# Altium footprint library rlc-chip.PcbLib: 57 footprints (part 4 of 4)
Each footprint in its own frame and in the unit in brackets; x right, y up, seen from the top. Pads: shape width x height; smd on the part's side, far side on the other; paste and mask are expansions set on the pad; w line width, h text height; cw(c..) or ccw(c..) is an arc to the next point about the centre after c.
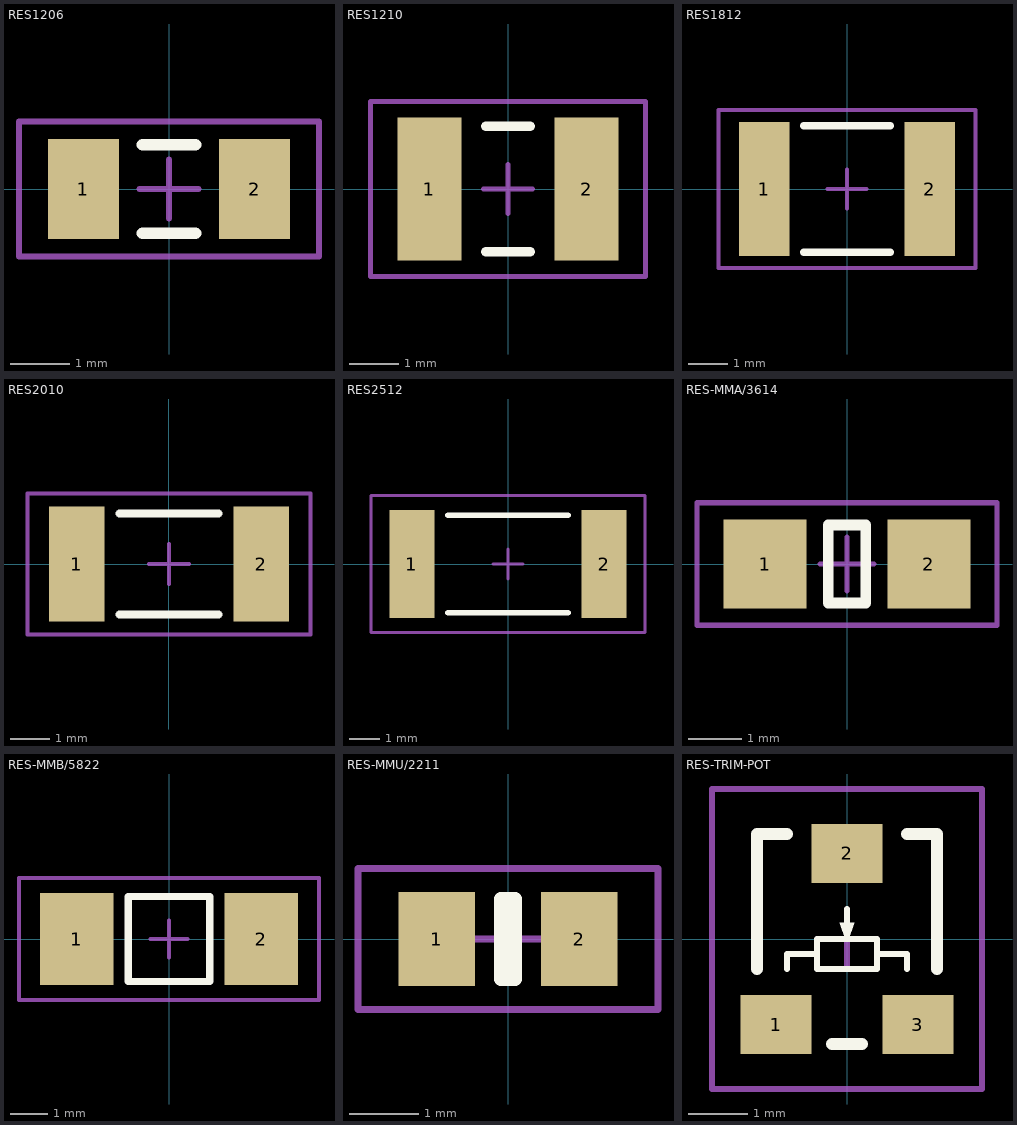
[diagram p3: the footprints below, top view; thin cyan lines are the x and y axes]

## RES1206 [mm] "Chip Resistor, 2-Leads, Body 3,13x1,55mm, IPC Medium Density"
height 0.7
pads (2):
  rect 1.2x1.7 smd: 1(-1.45,0) 2(1.45,0)
Top Overlay:
  lines w0.2: -0.45,-0.75 0.45,-0.75 ; -0.45,0.75 0.45,0.75
Mechanical 13:
  lines w0.1: -2.54,-1.143 -2.54,1.143 2.54,1.143 2.54,-1.143 -2.54,-1.143
  text ".Designator" at -1.85,-0.54 h1.1
Mechanical 15:
  lines w0.05: -2.54,-1.143 -2.54,1.143 2.54,1.143 2.54,-1.143 -2.54,-1.143
  lines w0.1: -0.5,0 0.5,0 ; 0,-0.5 0,0.5
3D body: height 0.7, standoff 0, extent -1.125,-0.825 1.125,0.825
3D body: height 0.7, standoff 0, extent -1.625,-0.825 -1.125,0.825
3D body: height 0.7, standoff 0, extent 1.125,-0.825 1.625,0.825

## RES1210 [mm] "Chip Resistor, 2-Leads, Body 3,20x2,50mm, IPC Medium Density"
height 0.7
pads (2):
  rect 1.3x2.9 smd: 1(-1.6,0) 2(1.6,0)
Top Overlay:
  lines w0.2: -0.45,-1.275 0.45,-1.275 ; -0.45,1.275 0.45,1.275
Mechanical 13:
  lines w0.1: -2.794,-1.778 2.794,-1.778 2.794,1.778 -2.794,1.778 -2.794,-1.778
  text ".Designator" at -1.99,-0.55 h1.2
Mechanical 15:
  lines w0.05: -2.794,-1.778 2.794,-1.778 2.794,1.778 -2.794,1.778 -2.794,-1.778
  lines w0.1: -0.5,0 0.5,0 ; 0,-0.5 0,0.5
3D body: height 0.7, standoff 0, extent 1.2,-1.35 1.7,1.35
3D body: height 0.7, standoff 0, extent -1.7,-1.35 -1.2,1.35
3D body: height 0.7, standoff 0, extent -1.2,-1.35 1.2,1.35

## RES1812 [mm] "Chip Resistor, 2-Leads, Body 4,50x3,20mm, IPC Medium Density"
height 0.7
pads (2):
  rect 1.3x3.45 smd: 1(-2.125,0) 2(2.125,0)
Top Overlay:
  lines w0.2: -1.1,-1.625 1.1,-1.625 ; -1.1,1.625 1.1,1.625
Mechanical 13:
  lines w0.1: -3.302,-2.032 -3.302,2.032 3.302,2.032 3.302,-2.032 -3.302,-2.032
  text ".Designator" at -2.5,-0.71 h1.5
Mechanical 15:
  lines w0.05: -3.302,-2.032 -3.302,2.032 3.302,2.032 3.302,-2.032 -3.302,-2.032
  lines w0.1: -0.5,0 0.5,0 ; 0,-0.5 0,0.5
3D body: height 0.7, standoff 0, extent -1.85,-1.7 1.85,1.7
3D body: height 0.7, standoff 0, extent -2.35,-1.7 -1.85,1.7
3D body: height 0.7, standoff 0, extent 1.85,-1.7 2.35,1.7

## RES2010 [mm] "Chip Resistor, 2-Leads, Body 5,00x2,50mm, IPC Medium Density"
height 0.7
pads (2):
  rect 1.4x2.9 smd: 1(-2.325,0) 2(2.325,0)
Top Overlay:
  lines w0.2: -1.25,-1.275 1.25,-1.275 ; -1.25,1.275 1.25,1.275
Mechanical 13:
  lines w0.1: -3.556,-1.778 3.556,-1.778 3.556,1.778 -3.556,1.778 -3.556,-1.778
  text ".Designator" at -2.63,-0.77 h1.6
Mechanical 15:
  lines w0.05: -3.556,-1.778 3.556,-1.778 3.556,1.778 -3.556,1.778 -3.556,-1.778
  lines w0.1: -0.5,0 0.5,0 ; 0,-0.5 0,0.5
3D body: height 0.7, standoff 0, extent 2,-1.35 2.6,1.35
3D body: height 0.7, standoff 0, extent -2.6,-1.35 -2,1.35
3D body: height 0.7, standoff 0, extent -2,-1.35 2,1.35

## RES2512 [mm] "Chip Resistor, 2-Leads, Body 6,40x3,20mm, IPC Medium Density"
height 0.8
pads (2):
  rect 1.5x3.6 smd: 1(-3.2,0) 2(3.2,0)
Top Overlay:
  lines w0.2: -2,-1.625 2,-1.625 ; -2,1.625 2,1.625
Mechanical 13:
  lines w0.1: -4.572,-2.286 -4.572,2.286 4.572,2.286 4.572,-2.286 -4.572,-2.286
  text ".Designator" at -3.29,-0.98 h2
Mechanical 15:
  lines w0.05: -4.572,-2.286 -4.572,2.286 4.572,2.286 4.572,-2.286 -4.572,-2.286
  lines w0.1: -0.5,0 0.5,0 ; 0,-0.5 0,0.5
3D body: height 0.8, standoff 0, extent -2.7,-1.7 2.7,1.7
3D body: height 0.8, standoff 0, extent -3.3,-1.7 -2.7,1.7
3D body: height 0.8, standoff 0, extent 2.7,-1.7 3.3,1.7

## RES-MMA/3614 [mm] "MELF Resistor, 2-Leads, Body 3,60x1,40mm, IPC Medium Density"
height 1.5
pads (2):
  rect 1.55x1.65 smd: 1(-1.525,0) 2(1.525,0)
Top Overlay:
  lines w0.2: -0.35,-0.725 -0.35,0.725 0.35,0.725 0.35,-0.725 -0.35,-0.725
Mechanical 13:
  lines w0.1: -2.794,-1.143 2.794,-1.143 2.794,1.143 -2.794,1.143 -2.794,-1.143
  text ".Designator" at -2.02,-0.54 h1.2
Mechanical 15:
  lines w0.05: -2.794,-1.143 2.794,-1.143 2.794,1.143 -2.794,1.143 -2.794,-1.143
  lines w0.1: -0.5,0 0.5,0 ; 0,-0.5 0,0.5
3D body: height 1.49, standoff 0, extent 1.05,-0.75 1.9,0.747
3D body: height 1.48, standoff 0.04, extent -1.05,-0.72 1.05,0.717
3D body: height 1.49, standoff 0, extent -1.9,-0.75 -1.05,0.747

## RES-MMB/5822 [mm] "MELF Resistor, 2-Leads, Body 5,80x2,20mm, IPC Medium Density"
height 2.4
pads (2):
  rect 2x2.5 smd: 1(-2.5,0) 2(2.5,0)
Top Overlay:
  lines w0.2: -1.1,-1.15 -1.1,1.15 1.1,1.15 1.1,-1.15 -1.1,-1.15
Mechanical 13:
  lines w0.1: -4.064,-1.651 4.064,-1.651 4.064,1.651 -4.064,1.651 -4.064,-1.651
  text ".Designator" at -2.28,-0.67 h1.4
Mechanical 15:
  lines w0.05: -4.064,-1.651 4.064,-1.651 4.064,1.651 -4.064,1.651 -4.064,-1.651
  lines w0.1: -0.5,0 0.5,0 ; 0,-0.5 0,0.5
3D body: height 2.39, standoff 0, extent 1.8,-1.2 3,1.195
3D body: height 2.38, standoff 0.04, extent -1.8,-1.17 1.8,1.165
3D body: height 2.39, standoff 0, extent -3,-1.2 -1.8,1.195

## RES-MMU/2211 [mm] "MELF Resistor, 2-Leads, Body 2,20x1,10mm, IPC Medium Density"
height 1.2
pads (2):
  rect 1.1x1.35 smd: 1(-1.025,0) 2(1.025,0)
Top Overlay:
  lines w0.2: -0.1,-0.575 -0.1,0.575 0.1,0.575 0.1,-0.575 -0.1,-0.575
Mechanical 13:
  lines w0.1: -2.159,-1.016 2.159,-1.016 2.159,1.016 -2.159,1.016 -2.159,-1.016
  text ".Designator" at -1.67,-0.47 h1
Mechanical 15:
  lines w0.05: -2.159,-1.016 2.159,-1.016 2.159,1.016 -2.159,1.016 -2.159,-1.016
  lines w0.1: -0.5,0 0.5,0 ; 0,-0.5 0,0.5
3D body: height 1.2, standoff 0, extent 0.7,-0.6 1.15,0.598
3D body: height 1.18, standoff 0.05, extent -0.7,-0.57 0.7,0.568
3D body: height 1.2, standoff 0, extent -1.15,-0.6 -0.7,0.598

## RES-TRIM-POT [mm]
pads (3):
  rect 1.2x1 smd: 1(-1.2,-1.45) 2(0,1.45) 3(1.2,-1.45)
Top Overlay:
  region: 0.025,-0.025 0.125,0.275 -0.125,0.275 -0.025,-0.025
  lines w0.1: -1.016,-0.508 -1.016,-0.254 -0.508,-0.254 ; 0,0 0,0.508 ; 0.508,-0.254 1.016,-0.254 1.016,-0.508 ; -0.508,-0.508 0.508,-0.508 0.508,0 -0.508,0 -0.508,-0.508
  lines w0.2: -1.524,-0.508 -1.524,1.778 -1.016,1.778 ; -0.254,-1.778 0.254,-1.778 ; 1.016,1.778 1.524,1.778 1.524,-0.508
Mechanical 13:
  lines w0.1: -2.286,-2.54 2.286,-2.54 2.286,2.54 -2.286,2.54 -2.286,-2.54
  text ".Designator" at -1.68,-0.49 h1
Mechanical 15:
  lines w0.05: -2.286,-2.54 2.286,-2.54 2.286,2.54 -2.286,2.54 -2.286,-2.54
  lines w0.1: -0.5,0 0.5,0 ; 0,-0.5 0,0.5